# EAGLE library part MAX4376 (library 3DOFMDB_COMPONENTS)
CURRENT SENSE AMPLIFIER
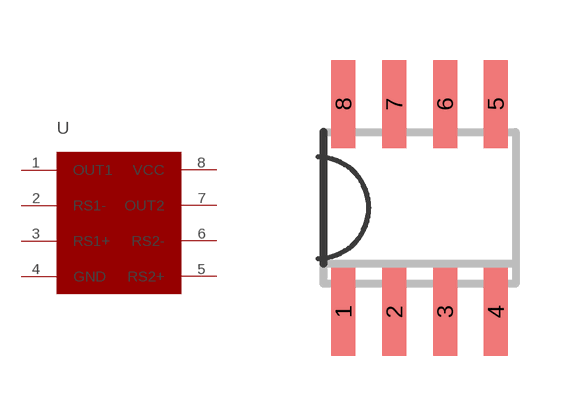
[diagram p0: symbol with the pads of SO8; footprint SO8]

Designator prefix -

## MAX4376  [SO8]
1  OUT1
2  RS1-
3  RS1+
4  GND
5  RS2+
6  RS2-
7  OUT2
8  VCC

## Footprint SO8 (pad centres in mm)
SMALL OUTLINE INTEGRATED CIRCUIT
smd 0.6 x 2.2: 1 -1.905,-2.6; 2 -0.635,-2.6; 3 0.635,-2.6; 4 1.905,-2.6; 5 1.905,2.6; 6 0.635,2.6; 7 -0.635,2.6; 8 -1.905,2.6